# EAGLE library part LED-7-SEGMENT-CC (library tidyeagle)
7 Segment Common Cathode LED Display Various packages.
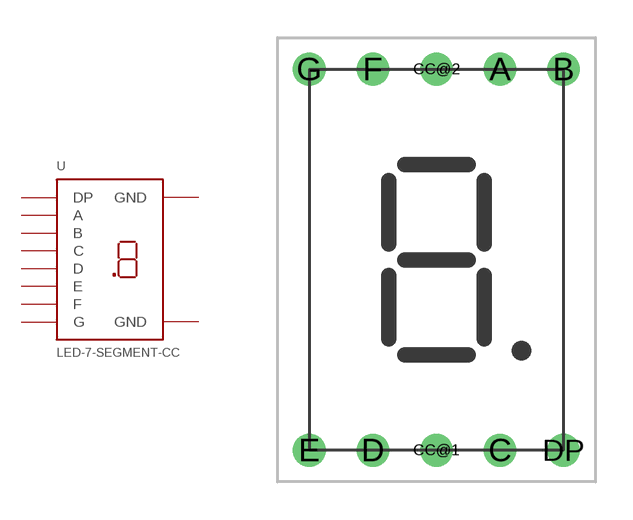
[diagram p32: symbol with the pads of HDSP-C5E3; footprint HDSP-C5E3]

Designator prefix -

## LED-7-SEGMENT-CC  [HDSP-C5E3]
A  A
B  B
C  C
CC@1  GND
CC@2  GND
D  D
DP  DP
E  E
F  F
G  G

## Footprint HDSP-C5E3 (pad centres in mm)
Avago HDSP-C5E3 Datasheet: Full <http://www.farnell.com/datasheets/609956.pdf>
drill 0.8: A 2.54,7.62; B 5.08,7.62; C 2.54,-7.62; CC@1 0,-7.62; CC@2 0,7.62; D -2.54,-7.62; DP 5.08,-7.62; E -5.08,-7.62; F -2.54,7.62; G -5.08,7.62